# EAGLE library part PCM2902B (library 1AA_Stofer)
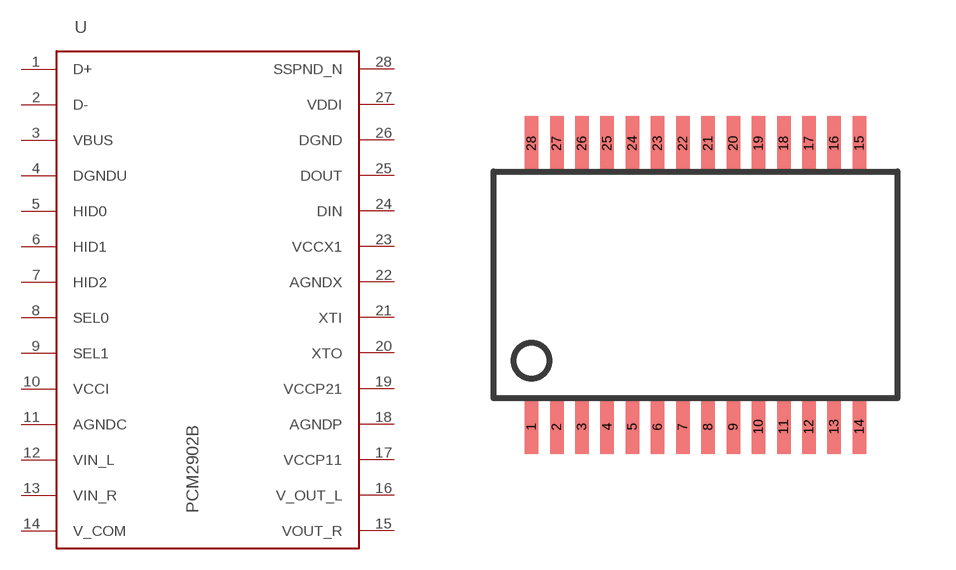
[diagram p19: symbol with the pads of SSOP28DB; footprint SSOP28DB]

Designator prefix -

## PCM2902B  [SSOP28DB]
1  D+
2  D-
3  VBUS
4  DGNDU
5  HID0
6  HID1
7  HID2
8  SEL0
9  SEL1
10  VCCI
11  AGNDC
12  VIN_L
13  VIN_R
14  V_COM
15  VOUT_R
16  V_OUT_L
17  VCCP11
18  AGNDP
19  VCCP21
20  XTO
21  XTI
22  AGNDX
23  VCCX1
24  DIN
25  DOUT
26  DGND
27  VDDI
28  SSPND_N

## Footprint SSOP28DB (pad centres in mm)
Small Shrink Outline Package
smd 0.348 x 1.397: 1 -4.225,-3.656; 2 -3.575,-3.656; 3 -2.925,-3.656; 4 -2.275,-3.656; 5 -1.625,-3.656; 6 -0.975,-3.656; 7 -0.325,-3.656; 8 0.325,-3.656; 9 0.975,-3.656; 10 1.625,-3.656; 11 2.275,-3.656; 12 2.925,-3.656; 13 3.575,-3.656; 14 4.225,-3.656; 15 4.225,3.656; 16 3.575,3.656; 17 2.925,3.656; 18 2.275,3.656; 19 1.625,3.656; 20 0.975,3.656; 21 0.325,3.656; 22 -0.325,3.656; 23 -0.975,3.656; 24 -1.625,3.656; 25 -2.275,3.656; 26 -2.925,3.656; 27 -3.575,3.656; 28 -4.225,3.656